# EAGLE library part ESP32WROOM (library NA-2025)
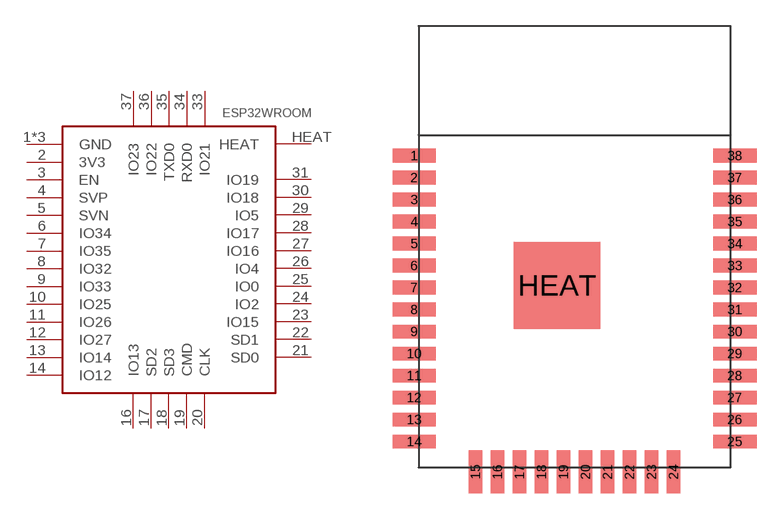
[diagram p9: symbol with the pads of ESP32WROOM; footprint ESP32WROOM]

Designator prefix -

## ESP32WROOM  [ESP32WROOM]
1  GND
2  3V3
3  EN
4  SVP
5  SVN
6  IO34
7  IO35
8  IO32
9  IO33
10  IO25
11  IO26
12  IO27
13  IO14
14  IO12
15  GND
16  IO13
17  SD2
18  SD3
19  CMD
20  CLK
21  SD0
22  SD1
23  IO15
24  IO2
25  IO0
26  IO4
27  IO16
28  IO17
29  IO5
30  IO18
31  IO19
33  IO21
34  RXD0
35  TXD0
36  IO22
37  IO23
38  GND
HEAT  HEAT

## Footprint ESP32WROOM (pad centres in mm)
smd 2.5 x 0.8: 1 -9.25,5.26; 2 -9.25,3.99; 3 -9.25,2.72; 4 -9.25,1.45; 5 -9.25,0.18; 6 -9.25,-1.09; 7 -9.25,-2.36; 8 -9.25,-3.63; 9 -9.25,-4.9; 10 -9.25,-6.17; 11 -9.25,-7.44; 12 -9.25,-8.71; 13 -9.25,-9.98; 14 -9.25,-11.25; 25 9.25,-11.25; 26 9.25,-9.98; 27 9.25,-8.71; 28 9.25,-7.44; 29 9.25,-6.17; 30 9.25,-4.9; 31 9.25,-3.63; 32 9.25,-2.36; 33 9.25,-1.09; 34 9.25,0.18; 35 9.25,1.45; 36 9.25,2.72; 37 9.25,3.99; 38 9.25,5.26
smd 0.8 x 2.5: 15 -5.715,-13; 16 -4.445,-13; 17 -3.175,-13; 18 -1.905,-13; 19 -0.635,-13; 20 0.635,-13; 21 1.905,-13; 22 3.175,-13; 23 4.445,-13; 24 5.715,-13
smd 5.01 x 5.01: HEAT -1.01,-2.24